# Altium footprint library XHCLB_22.11.30.PcbLib: 90 footprints (part 2 of 6)
Each footprint in its own frame and in the unit in brackets; x right, y up, seen from the top. Pads: shape width x height; smd on the part's side, far side on the other; paste and mask are expansions set on the pad; w line width, h text height; cw(c..) or ccw(c..) is an arc to the next point about the centre after c.
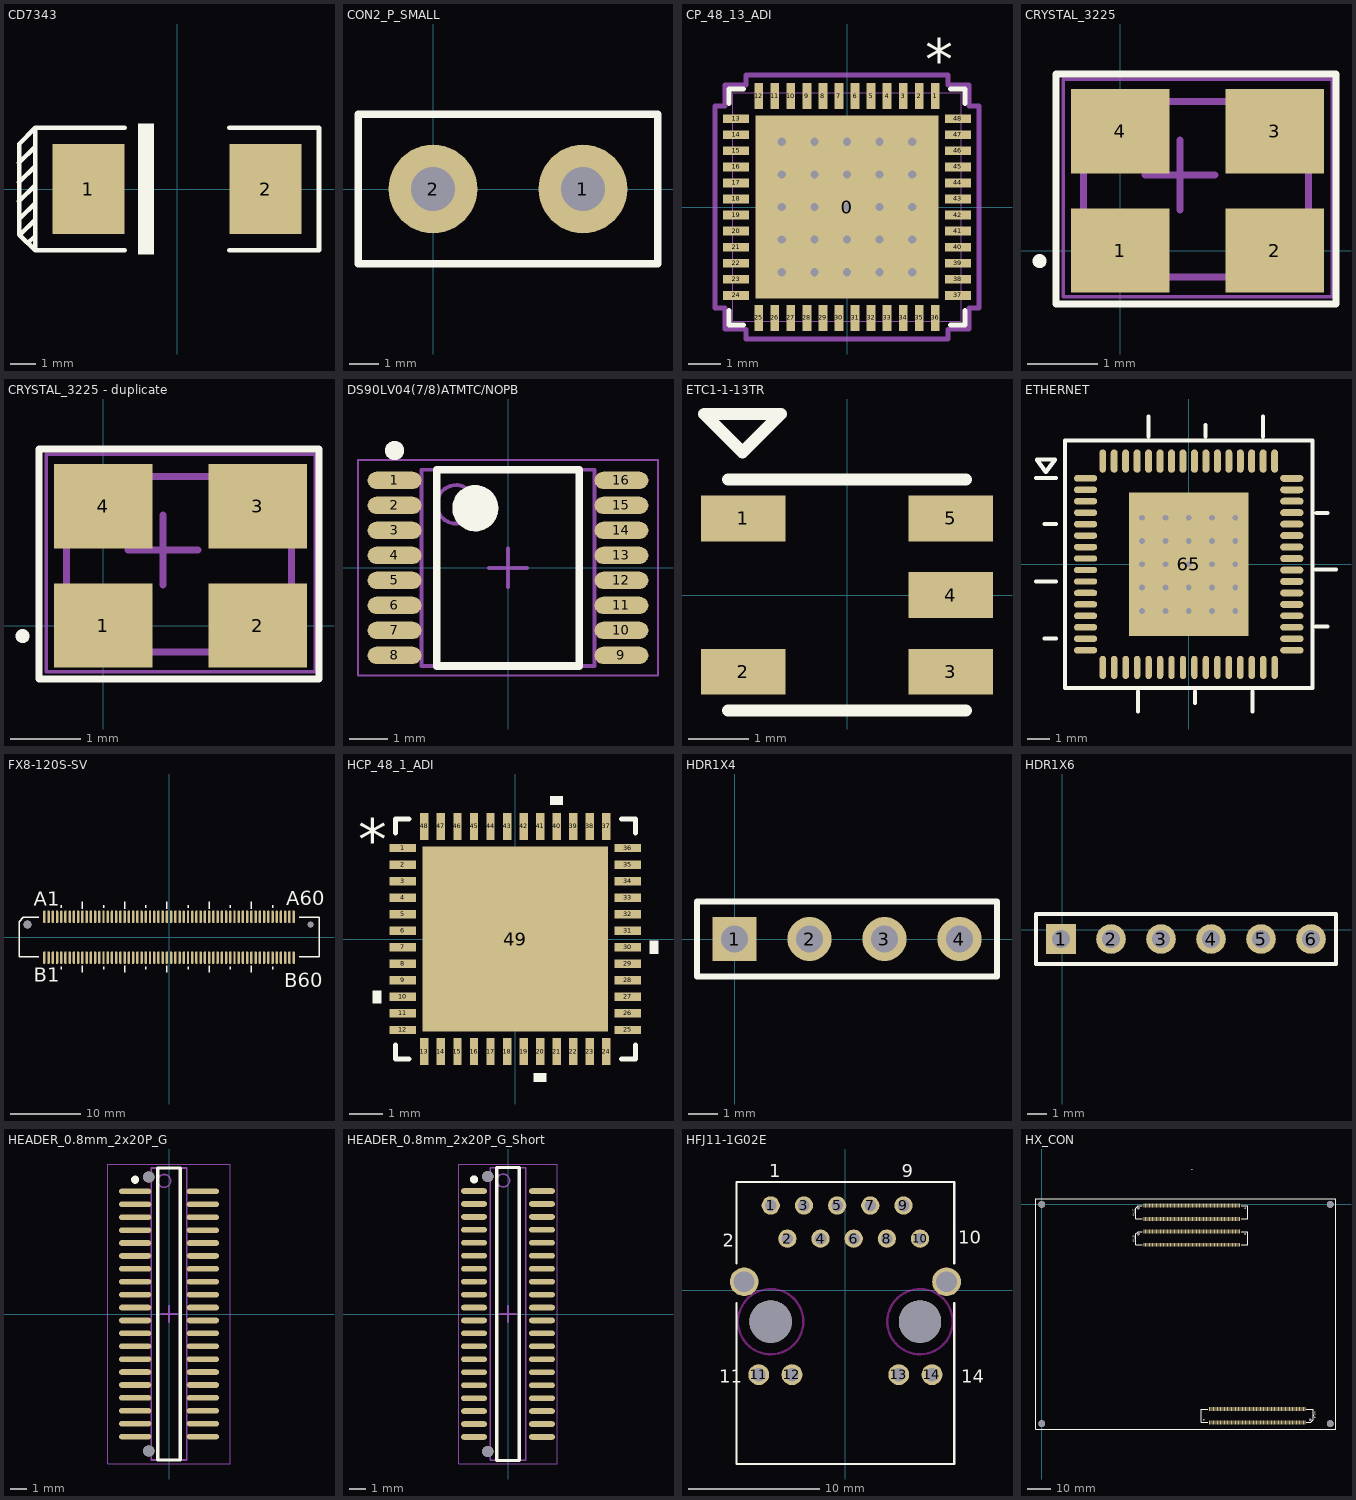
[diagram p1: the footprints below, top view; thin cyan lines are the x and y axes]

## CD7343 [mm]
pads (2):
  rect 2.8x3.5 smd: 1(-3.45,0) 2(3.45,0)
Top Overlay:
  rectangle: -1.524,-2.54 -0.889,2.54
  lines w0.178: -6.151,-0.474 -5.524,0.152 ; -6.151,0.263 -5.524,0.889 ; -6.151,1.025 -5.524,1.651 ; -6.092,-1.761 -5.524,-1.194 ; -6.092,-1.126 -5.524,-0.559 ; -5.817,-2.108 -5.524,-1.829 ; -2.032,-2.388 -5.524,-2.388 ; -2.032,2.388 -5.524,2.388 ; 2.032,-2.388 5.524,-2.388 5.524,2.388 2.032,2.388 ; -5.524,-2.388 -6.147,-1.778 -6.147,1.753 -5.524,2.388 ; -5.524,-2.388 -5.524,2.388

## CON2_P_SMALL [mm]
pads (2):
  round 3 hole 1.5: 1(5.08,0) 2(0,0)
Top Overlay:
  lines w0.254: -2.54,-2.54 -2.54,2.54 7.62,2.54 7.62,0 7.62,-2.54 -2.54,-2.54

## CP_48_13_ADI [mm]
pads (49):
  rect 5.7x5.7 smd paste+0 mask+0: 0(0,0)
  rect 0.275x0.805 smd paste+0 mask+0: 1(2.75,3.452) 2(2.25,3.452) 3(1.75,3.452) 4(1.25,3.452) 5(0.75,3.452) 6(0.25,3.452) 7(-0.25,3.452) 8(-0.75,3.452) 9(-1.25,3.452) 10(-1.75,3.452) 11(-2.25,3.452) 12(-2.75,3.452) 25(-2.75,-3.452) 26(-2.25,-3.452) 27(-1.75,-3.452) 28(-1.25,-3.452) 29(-0.75,-3.452) 30(-0.25,-3.452) 31(0.25,-3.452) 32(0.75,-3.452) 33(1.25,-3.452) 34(1.75,-3.452) 35(2.25,-3.452) 36(2.75,-3.452)
  rect 0.805x0.275 smd paste+0 mask+0: 13(-3.452,2.75) 14(-3.452,2.25) 15(-3.452,1.75) 16(-3.452,1.25) 17(-3.452,0.75) 18(-3.452,0.25) 19(-3.452,-0.25) 20(-3.452,-0.75) 21(-3.452,-1.25) 22(-3.452,-1.75) 23(-3.452,-2.25) 24(-3.452,-2.75) 37(3.452,-2.75) 38(3.452,-2.25) 39(3.452,-1.75) 40(3.452,-1.25) 41(3.452,-0.75) 42(3.452,-0.25) 43(3.452,0.25) 44(3.452,0.75) 45(3.452,1.25) 46(3.452,1.75) 47(3.452,2.25) 48(3.452,2.75)
via 0,0 diameter 0.457 hole 0.254
via 0,1.016 diameter 0.457 hole 0.254
via 0,-1.016 diameter 0.457 hole 0.254
via 0,-2.032 diameter 0.457 hole 0.254
via 0,2.032 diameter 0.457 hole 0.254
via -1.016,0 diameter 0.457 hole 0.254
via 1.016,0 diameter 0.457 hole 0.254
via 2.032,0 diameter 0.457 hole 0.254
via -2.032,0 diameter 0.457 hole 0.254
via 1.016,1.016 diameter 0.457 hole 0.254
via 1.016,-1.016 diameter 0.457 hole 0.254
via 1.016,-2.032 diameter 0.457 hole 0.254
via 1.016,2.032 diameter 0.457 hole 0.254
via 2.032,1.016 diameter 0.457 hole 0.254
via 2.032,-1.016 diameter 0.457 hole 0.254
via 2.032,-2.032 diameter 0.457 hole 0.254
via 2.032,2.032 diameter 0.457 hole 0.254
via -1.016,1.016 diameter 0.457 hole 0.254
via -1.016,-1.016 diameter 0.457 hole 0.254
via -1.016,-2.032 diameter 0.457 hole 0.254
via -1.016,2.032 diameter 0.457 hole 0.254
via -2.032,1.016 diameter 0.457 hole 0.254
via -2.032,-1.016 diameter 0.457 hole 0.254
via -2.032,-2.032 diameter 0.457 hole 0.254
via -2.032,2.032 diameter 0.457 hole 0.254
Top Overlay:
  lines w0.152: -3.677,-3.22 -3.677,-3.677 -3.22,-3.677 ; -3.677,3.22 -3.677,3.677 -3.22,3.677 ; 3.22,-3.677 3.677,-3.677 3.677,-3.22 ; 3.22,3.677 3.677,3.677 3.677,3.22
  text "*" at 2.432,3.96 h1.27
Top Paste:
  region: -1.525,-1.525 -2.75,-1.525 -2.75,-2.75 -1.525,-2.75
  region: -0.1,-1.525 -1.325,-1.525 -1.325,-2.75 -0.1,-2.75
  region: -0.1,-0.1 -1.325,-0.1 -1.325,-1.325 -0.1,-1.325
  region: -1.525,-0.1 -2.75,-0.1 -2.75,-1.325 -1.525,-1.325
  region: -0.1,1.325 -1.325,1.325 -1.325,0.1 -0.1,0.1
  region: -1.525,1.325 -2.75,1.325 -2.75,0.1 -1.525,0.1
  region: -0.1,2.75 -1.325,2.75 -1.325,1.525 -0.1,1.525
  region: -1.525,2.75 -2.75,2.75 -2.75,1.525 -1.525,1.525
  region: 2.75,-1.525 1.525,-1.525 1.525,-2.75 2.75,-2.75
  region: 1.325,-1.525 0.1,-1.525 0.1,-2.75 1.325,-2.75
  region: 1.325,-0.1 0.1,-0.1 0.1,-1.325 1.325,-1.325
  region: 2.75,-0.1 1.525,-0.1 1.525,-1.325 2.75,-1.325
  region: 1.325,1.325 0.1,1.325 0.1,0.1 1.325,0.1
  region: 1.325,2.75 0.1,2.75 0.1,1.525 1.325,1.525
  region: 2.75,1.325 1.525,1.325 1.525,0.1 2.75,0.1
  region: 2.75,2.75 1.525,2.75 1.525,1.525 2.75,1.525
Mechanical 13:
  lines w0.025: -3.55,-3.55 -3.55,3.55 3.55,3.55 3.55,-3.55 -3.55,-3.55 ; -3.55,-2.9 -3.55,-2.6 -3.55,-2.9 ; -3.55,-2.4 -3.55,-2.1 -3.55,-2.4 ; -3.55,-1.9 -3.55,-1.6 -3.55,-1.9 ; -3.55,-1.4 -3.55,-1.1 -3.55,-1.4 ; -3.55,-0.9 -3.55,-0.6 -3.55,-0.9 ; -3.55,-0.4 -3.55,-0.1 -3.55,-0.4 ; -3.55,0.1 -3.55,0.4 -3.55,0.1 ; -3.55,0.6 -3.55,0.9 -3.55,0.6 ; -3.55,1.1 -3.55,1.4 -3.55,1.1 ; -3.55,1.6 -3.55,1.9 -3.55,1.6 ; -3.55,2.1 -3.55,2.4 -3.55,2.1 ; -3.55,2.6 -3.55,2.9 -3.55,2.6 ; -2.9,-3.55 -2.6,-3.55 -2.9,-3.55 ; -2.9,3.55 -2.6,3.55 -2.9,3.55 ; -2.4,-3.55 -2.1,-3.55 -2.4,-3.55 ; -2.4,3.55 -2.1,3.55 -2.4,3.55 ; -1.9,-3.55 -1.6,-3.55 -1.9,-3.55 ; -1.9,3.55 -1.6,3.55 -1.9,3.55 ; -1.4,-3.55 -1.1,-3.55 -1.4,-3.55 ; -1.4,3.55 -1.1,3.55 -1.4,3.55 ; -0.9,-3.55 -0.6,-3.55 -0.9,-3.55 ; -0.9,3.55 -0.6,3.55 -0.9,3.55 ; -0.4,-3.55 -0.1,-3.55 -0.4,-3.55 ; -0.4,3.55 -0.1,3.55 -0.4,3.55 ; 0.1,-3.55 0.4,-3.55 0.1,-3.55 ; 0.1,3.55 0.4,3.55 0.1,3.55 ; 0.6,-3.55 0.9,-3.55 0.6,-3.55 ; 0.6,3.55 0.9,3.55 0.6,3.55 ; 1.1,-3.55 1.4,-3.55 1.1,-3.55 ; 1.1,3.55 1.4,3.55 1.1,3.55 ; 1.6,-3.55 1.9,-3.55 1.6,-3.55 ; 1.6,3.55 1.9,3.55 1.6,3.55 ; 2.1,-3.55 2.4,-3.55 2.1,-3.55 ; 2.1,3.55 2.4,3.55 2.1,3.55 ; 2.6,-3.55 2.9,-3.55 2.6,-3.55 ; 2.6,3.55 2.9,3.55 2.6,3.55 ; 3.55,-2.9 3.55,-2.6 3.55,-2.9 ; 3.55,-2.4 3.55,-2.1 3.55,-2.4 ; 3.55,-1.9 3.55,-1.6 3.55,-1.9 ; 3.55,-1.4 3.55,-1.1 3.55,-1.4 ; 3.55,-0.9 3.55,-0.6 3.55,-0.9 ; 3.55,-0.4 3.55,-0.1 3.55,-0.4 ; 3.55,0.1 3.55,0.4 3.55,0.1 ; 3.55,0.6 3.55,0.9 3.55,0.6 ; 3.55,1.1 3.55,1.4 3.55,1.1 ; 3.55,1.6 3.55,1.9 3.55,1.6 ; 3.55,2.1 3.55,2.4 3.55,2.1 ; 3.55,2.6 3.55,2.9 3.55,2.6
  text "*" at 2.591,2.983 h0.64
Mechanical 15:
  lines w0.152: -4.109,-3.141 -4.109,3.141 -3.804,3.141 -3.804,3.804 -3.141,3.804 -3.141,4.109 3.141,4.109 3.141,3.804 3.804,3.804 3.804,3.141 4.109,3.141 4.109,-3.141 3.804,-3.141 3.804,-3.804 3.141,-3.804 3.141,-4.109 -3.141,-4.109 -3.141,-3.804 -3.804,-3.804 -3.804,-3.141 -4.109,-3.141
3D body "CP_48_13_ADI.step": height 0.8, standoff 0, extent -3.55,-3.55 3.55,3.55

## CRYSTAL_3225 [mm]
pads (4):
  rect 1.4x1.2 smd: 1(0,0) 2(2.2,0) 3(2.2,1.7) 4(0,1.7)
Top Overlay:
  circle w0.1: c-1.15,-0.15 r0.05
  lines w0.1: -0.914,-0.762 3.073,-0.762 3.073,2.515 -0.914,2.515 -0.914,-0.762
Mechanical 13:
  lines w0.1: -0.521,-0.379 -0.521,2.121 2.679,2.121 2.679,-0.379 -0.521,-0.379
Mechanical 15:
  lines w0.05: -0.813,-0.66 -0.813,2.438 3.023,2.438 3.023,-0.66 -0.813,-0.66
  lines w0.1: 0.35,1.075 1.35,1.075 ; 0.85,0.575 0.85,1.575
3D body: height 0.7, standoff 0.1, extent -0.508,-0.412 2.692,2.088

## CRYSTAL_3225 - duplicate [mm]
pads (4):
  rect 1.4x1.2 smd: 1(0,0) 2(2.2,0) 3(2.2,1.7) 4(0,1.7)
Top Overlay:
  circle w0.1: c-1.15,-0.15 r0.05
  lines w0.1: -0.914,-0.762 -0.914,2.515 3.073,2.515 3.073,-0.762 -0.914,-0.762
Mechanical 13:
  lines w0.1: -0.521,-0.379 2.679,-0.379 2.679,2.121 -0.521,2.121 -0.521,-0.379
Mechanical 15:
  lines w0.05: -0.813,-0.66 3.023,-0.66 3.023,2.438 -0.813,2.438 -0.813,-0.66
  lines w0.1: 0.35,1.075 1.35,1.075 ; 0.85,0.575 0.85,1.575
3D body: height 0.7, standoff 0.1, extent -0.508,-0.412 2.692,2.088

## DS90LV04(7/8)ATMTC/NOPB [mm] "TSSOP (PW)"
height 1.2
pads (16):
  oval 1.4x0.45 smd: 1(-2.95,2.275) 2(-2.95,1.625) 3(-2.95,0.975) 4(-2.95,0.325) 5(-2.95,-0.325) 6(-2.95,-0.975) 7(-2.95,-1.625) 8(-2.95,-2.275) 9(2.95,-2.275) 10(2.95,-1.625) 11(2.95,-0.975) 12(2.95,-0.325) 13(2.95,0.325) 14(2.95,0.975) 15(2.95,1.625) 16(2.95,2.275)
Top Overlay:
  circle w0.25: c-2.95,3.05 r0.125
  circle w0.6: c-0.85,1.55 r0.3
  lines w0.2: -1.85,-2.55 -1.85,2.55 1.85,2.55 1.85,-2.55 -1.85,-2.55
Mechanical 13:
  circle w0.1: c-1.35,1.65 r0.5
  lines w0.1: -2.25,-2.55 -2.25,2.55 2.25,2.55 2.25,-2.55 -2.25,-2.55
Mechanical 15:
  lines w0.05: -3.9,-2.8 -3.9,2.8 3.9,2.8 3.9,-2.8 -3.9,-2.8
  lines w0.1: -0.5,0 0.5,0 ; 0,-0.5 0,0.5
3D body: height 1.2, standoff 0.05, extent -2.25,-2.55 2.25,2.55

## ETC1-1-13TR [mm]
pads (5):
  rect 1.4x0.76 smd: 1(-1.715,1.27) 2(-1.715,-1.27) 3(1.715,-1.27) 4(1.715,0) 5(1.715,1.27)
Top Overlay:
  lines w0.2: -1.97,-1.915 1.97,-1.915 ; -1.97,1.915 1.97,1.915 ; -2.365,3 -1.73,2.365 -1.095,3 -2.365,3

## ETHERNET [mm]
height 1.1
pads (65):
  oval 1.016x0.279 smd: 1(-4.5,3.75) 2(-4.5,3.25) 3(-4.5,2.75) 4(-4.5,2.25) 5(-4.5,1.75) 6(-4.5,1.25) 7(-4.5,0.75) 8(-4.5,0.25) 9(-4.5,-0.25) 10(-4.5,-0.75) 11(-4.5,-1.25) 12(-4.5,-1.75) 13(-4.5,-2.25) 14(-4.5,-2.75) 15(-4.5,-3.25) 16(-4.5,-3.75) 33(4.5,-3.75) 34(4.5,-3.25) 35(4.5,-2.75) 36(4.5,-2.25)
  oval 0.279x1.016 smd: 17(-3.75,-4.5) 18(-3.25,-4.5) 19(-2.75,-4.5) 20(-2.25,-4.5) 21(-1.75,-4.5) 22(-1.25,-4.5) 23(-0.75,-4.5) 24(-0.25,-4.5) 25(0.25,-4.5) 26(0.75,-4.5) 27(1.25,-4.5) 28(1.75,-4.5) 29(2.25,-4.5) 30(2.75,-4.5) 31(3.25,-4.5) 32(3.75,-4.5) 64(-3.75,4.5)
  oval 1.016x0.305 smd: 37(4.5,-1.75) 38(4.5,-1.25) 39(4.5,-0.75) 40(4.5,-0.25) 41(4.5,0.25) 42(4.5,0.75) 43(4.5,1.25) 44(4.5,1.75) 45(4.5,2.25) 46(4.5,2.75) 47(4.5,3.25) 48(4.5,3.75)
  oval 0.305x1.016 smd: 49(3.75,4.5) 50(3.25,4.5) 51(2.75,4.5) 52(2.25,4.5) 53(1.75,4.5) 54(1.25,4.5) 55(0.75,4.5) 56(0.25,4.5) 57(-0.25,4.5) 58(-0.75,4.5) 59(-1.25,4.5) 60(-1.75,4.5) 61(-2.25,4.5) 62(-2.75,4.5) 63(-3.25,4.5)
  rect 5.21x6.25 smd: 65(0,0)
via -2.032,-2.032 diameter 0.457 hole 0.254
via -2.032,-1.016 diameter 0.457 hole 0.254
via -2.032,2.032 diameter 0.457 hole 0.254
via -2.032,1.016 diameter 0.457 hole 0.254
via -1.016,-2.032 diameter 0.457 hole 0.254
via -1.016,-1.016 diameter 0.457 hole 0.254
via -1.016,2.032 diameter 0.457 hole 0.254
via -1.016,1.016 diameter 0.457 hole 0.254
via 2.032,-2.032 diameter 0.457 hole 0.254
via 2.032,-1.016 diameter 0.457 hole 0.254
via 2.032,2.032 diameter 0.457 hole 0.254
via 2.032,1.016 diameter 0.457 hole 0.254
via 1.016,-2.032 diameter 0.457 hole 0.254
via 1.016,-1.016 diameter 0.457 hole 0.254
via 1.016,2.032 diameter 0.457 hole 0.254
via 1.016,1.016 diameter 0.457 hole 0.254
via 2.032,0 diameter 0.457 hole 0.254
via 1.016,0 diameter 0.457 hole 0.254
via -2.032,0 diameter 0.457 hole 0.254
via -1.016,0 diameter 0.457 hole 0.254
via 0,-2.032 diameter 0.457 hole 0.254
via 0,-1.016 diameter 0.457 hole 0.254
via 0,2.032 diameter 0.457 hole 0.254
via 0,1.016 diameter 0.457 hole 0.254
via 0,0 diameter 0.457 hole 0.254
Top Overlay:
  lines w0.178: -6.662,-0.743 -5.798,-0.743 ; -6.662,3.757 -5.798,3.757 ; -6.292,-3.243 -5.798,-3.243 ; -6.292,1.757 -5.798,1.757 ; -2.217,-6.414 -2.217,-5.551 ; -1.76,5.575 -1.76,6.438 ; 0.283,-6.044 0.283,-5.551 ; 0.74,5.575 0.74,6.068 ; 2.783,-6.414 2.783,-5.551 ; 3.24,5.575 3.24,6.438 ; 5.563,-2.718 6.056,-2.718 ; 5.563,-0.229 6.426,-0.229 ; 5.566,2.243 6.06,2.243 ; -6.625,4.571 -6.233,4.025 -5.825,4.571 -6.625,4.571 ; -5.4,-5.4 5.4,-5.4 5.4,5.4 -5.4,5.4 -5.4,-5.4

## FX8-120S-SV [mm]
pads (122):
  oval 0.35x1.8 smd mask+0.102: A1(-17.7,2.9) A2(-17.1,2.9) A3(-16.5,2.9) A4(-15.9,2.9) A5(-15.3,2.9) A6(-14.7,2.9) A7(-14.1,2.9) A8(-13.5,2.9) A9(-12.9,2.9) A10(-12.3,2.9) A11(-11.7,2.9) A12(-11.1,2.9) A13(-10.5,2.9) A14(-9.9,2.9) A15(-9.3,2.9) A16(-8.7,2.9) A17(-8.1,2.9) A18(-7.5,2.9) A19(-6.9,2.9) A20(-6.3,2.9) A21(-5.7,2.9) A22(-5.1,2.9) A23(-4.5,2.9) A24(-3.9,2.9) A25(-3.3,2.9) A26(-2.7,2.9) A27(-2.1,2.9) A28(-1.5,2.9) A29(-0.9,2.9) A30(-0.3,2.9) A31(0.3,2.9) A32(0.9,2.9) A33(1.5,2.9) A34(2.1,2.9) A35(2.7,2.9) A36(3.3,2.9) A37(3.9,2.9) A38(4.5,2.9) A39(5.1,2.9) A40(5.7,2.9) A41(6.3,2.9) A42(6.9,2.9) A43(7.5,2.9) A44(8.1,2.9) A45(8.7,2.9) A46(9.3,2.9) A47(9.9,2.9) A48(10.5,2.9) A49(11.1,2.9) A50(11.7,2.9) A51(12.3,2.9) A52(12.9,2.9) A53(13.5,2.9) A54(14.1,2.9) A55(14.7,2.9) A56(15.3,2.9) A57(15.9,2.9) A58(16.5,2.9) A59(17.1,2.9) A60(17.7,2.9) B1(-17.7,-2.9) B2(-17.1,-2.9) B3(-16.5,-2.9) B4(-15.9,-2.9) B5(-15.3,-2.9) B6(-14.7,-2.9) B7(-14.1,-2.9) B8(-13.5,-2.9) B9(-12.9,-2.9) B10(-12.3,-2.9) B11(-11.7,-2.9) B12(-11.1,-2.9) B13(-10.5,-2.9) B14(-9.9,-2.9) B15(-9.3,-2.9) B16(-8.7,-2.9) B17(-8.1,-2.9) B18(-7.5,-2.9) B19(-6.9,-2.9) B20(-6.3,-2.9) B21(-5.7,-2.9) B22(-5.1,-2.9) B23(-4.5,-2.9) B24(-3.9,-2.9) B25(-3.3,-2.9) B26(-2.7,-2.9) B27(-2.1,-2.9) B28(-1.5,-2.9) B29(-0.9,-2.9) B30(-0.3,-2.9) B31(0.3,-2.9) B32(0.9,-2.9) B33(1.5,-2.9) B34(2.1,-2.9) B35(2.7,-2.9) B36(3.3,-2.9) B37(3.9,-2.9) B38(4.5,-2.9) B39(5.1,-2.9) B40(5.7,-2.9) B41(6.3,-2.9) B42(6.9,-2.9) B43(7.5,-2.9) B44(8.1,-2.9) B45(8.7,-2.9) B46(9.3,-2.9) B47(9.9,-2.9) B48(10.5,-2.9) B49(11.1,-2.9) B50(11.7,-2.9) B51(12.3,-2.9) B52(12.9,-2.9) B53(13.5,-2.9) B54(14.1,-2.9) B55(14.7,-2.9) B56(15.3,-2.9) B57(15.9,-2.9) B58(16.5,-2.9) B59(17.1,-2.9) B60(17.7,-2.9)
  round 1.1 hole 1.1 unplated mask+0.102: ""(-20.1,1.8)
  round 0.8 hole 0.8 unplated mask+0.102: ""(20.1,1.8)
Top Overlay:
  lines w0.178: -18.5,-2.8 -21.3,-2.8 -21.3,2.195 -20.695,2.8 -18.5,2.8 ; -15.291,-4.547 -15.291,-4.166 ; -15.291,4.166 -15.291,4.547 ; -12.319,-5.004 -12.319,-4.064 ; -12.319,4.064 -12.319,5.004 ; -9.291,-4.547 -9.291,-4.166 ; -9.291,4.166 -9.291,4.547 ; -6.319,-5.004 -6.319,-4.064 ; -6.319,4.064 -6.319,5.004 ; -3.291,-4.547 -3.291,-4.166 ; -3.291,4.166 -3.291,4.547 ; -0.319,-5.004 -0.319,-4.064 ; -0.319,4.064 -0.319,5.004 ; 2.709,-4.547 2.709,-4.166 ; 2.709,4.166 2.709,4.547 ; 5.681,-5.004 5.681,-4.064 ; 5.681,4.064 5.681,5.004 ; 8.709,-4.547 8.709,-4.166 ; 8.709,4.166 8.709,4.547 ; 11.681,-5.004 11.681,-4.064 ; 11.681,4.064 11.681,5.004 ; 14.709,-4.547 14.709,-4.166 ; 14.709,4.166 14.709,4.547 ; 18.5,-2.8 21.3,-2.8 21.3,2.8 18.5,2.8
  text "B60" at 16.383,-7.112 h2.03
  text "A60" at 16.637,4.572 h2.03
  text "B1" at -19.177,-6.35 h2.03
  text "A1" at -19.177,4.445 h2.03

## HCP_48_1_ADI [mm]
pads (49):
  rect 0.805x0.254 smd paste+0 mask+0: 1(-3.402,2.75) 2(-3.402,2.25) 3(-3.402,1.75) 4(-3.402,1.25) 5(-3.402,0.75) 6(-3.402,0.25) 7(-3.402,-0.25) 8(-3.402,-0.75) 9(-3.402,-1.25) 10(-3.402,-1.75) 11(-3.402,-2.25) 12(-3.402,-2.75) 25(3.402,-2.75) 26(3.402,-2.25) 27(3.402,-1.75) 28(3.402,-1.25) 29(3.402,-0.75) 30(3.402,-0.25) 31(3.402,0.25) 32(3.402,0.75) 33(3.402,1.25) 34(3.402,1.75) 35(3.402,2.25) 36(3.402,2.75)
  rect 0.254x0.805 smd paste+0 mask+0: 13(-2.75,-3.402) 14(-2.25,-3.402) 15(-1.75,-3.402) 16(-1.25,-3.402) 17(-0.75,-3.402) 18(-0.25,-3.402) 19(0.25,-3.402) 20(0.75,-3.402) 21(1.25,-3.402) 22(1.75,-3.402) 23(2.25,-3.402) 24(2.75,-3.402) 37(2.75,3.402) 38(2.25,3.402) 39(1.75,3.402) 40(1.25,3.402) 41(0.75,3.402) 42(0.25,3.402) 43(-0.25,3.402) 44(-0.75,3.402) 45(-1.25,3.402) 46(-1.75,3.402) 47(-2.25,3.402) 48(-2.75,3.402)
  rect 5.6x5.6 smd paste-2.787 mask+0: 49(0,0)
Top Overlay:
  region: -4.059,-1.559 -4.313,-1.559 -4.313,-1.94 -4.059,-1.94
  region: 0.941,-4.059 0.56,-4.059 0.56,-4.313 0.941,-4.313
  region: 4.059,-0.059 4.313,-0.059 4.313,-0.44 4.059,-0.44
  region: 1.441,4.059 1.06,4.059 1.06,4.313 1.441,4.313
  lines w0.152: -3.627,-3.21 -3.627,-3.627 -3.21,-3.627 ; -3.627,3.21 -3.627,3.627 -3.21,3.627 ; 3.21,-3.627 3.627,-3.627 3.627,-3.21 ; 3.21,3.627 3.627,3.627 3.627,3.21
  text "*" at -4.757,2.365 h1.27
Top Paste:
  region: -1.5,2.7 -2.7,2.7 -2.7,1.5 -1.5,1.5
  region: -1.5,1.3 -2.7,1.3 -2.7,0.1 -1.5,0.1
  region: -1.5,-0.1 -2.7,-0.1 -2.7,-1.3 -1.5,-1.3
  region: -1.5,-1.5 -2.7,-1.5 -2.7,-2.7 -1.5,-2.7
  region: -0.1,2.7 -1.3,2.7 -1.3,1.5 -0.1,1.5
  region: -0.1,1.3 -1.3,1.3 -1.3,0.1 -0.1,0.1
  region: -0.1,-0.1 -1.3,-0.1 -1.3,-1.3 -0.1,-1.3
  region: -0.1,-1.5 -1.3,-1.5 -1.3,-2.7 -0.1,-2.7
  region: 1.3,2.7 0.1,2.7 0.1,1.5 1.3,1.5
  region: 1.3,1.3 0.1,1.3 0.1,0.1 1.3,0.1
  region: 1.3,-0.1 0.1,-0.1 0.1,-1.3 1.3,-1.3
  region: 1.3,-1.5 0.1,-1.5 0.1,-2.7 1.3,-2.7
  region: 2.7,2.7 1.5,2.7 1.5,1.5 2.7,1.5
  region: 2.7,1.3 1.5,1.3 1.5,0.1 2.7,0.1
  region: 2.7,-0.1 1.5,-0.1 1.5,-1.3 2.7,-1.3
  region: 2.7,-1.5 1.5,-1.5 1.5,-2.7 2.7,-2.7

## HDR1X4 [mm] "Connector; Header; 6 Position"
pads (4):
  rect 1.5x1.5 hole 0.9: 1(0,0)
  round 1.5 hole 0.9: 2(2.54,0) 3(5.08,0) 4(7.62,0)
Top Overlay:
  lines w0.2: -1.27,-1.27 8.89,-1.27 8.89,1.27 -1.27,1.27 -1.27,-1.27

## HDR1X6 [mm]
pads (6):
  rect 1.5x1.5 hole 0.9: 1(-0.063,-0.466)
  round 1.5 hole 0.9: 2(2.477,-0.466) 3(5.017,-0.466) 4(7.557,-0.466) 5(10.097,-0.466) 6(12.637,-0.466)
Top Overlay:
  lines w0.2: -1.333,-1.736 -1.333,0.804 13.907,0.804 13.907,-1.736 -1.333,-1.736

## HEADER_0.8mm_2x20P_G [mm] "0.8间距2x20P公座，SMD"
height 2
pads (40):
  oval 2x0.35 smd: 1(-2.1,7.6) 2(-2.1,6.8) 3(-2.1,6) 4(-2.1,5.2) 5(-2.1,4.4) 6(-2.1,3.6) 7(-2.1,2.8) 8(-2.1,2) 9(-2.1,1.2) 10(-2.1,0.4) 11(-2.1,-0.4) 12(-2.1,-1.2) 13(-2.1,-2) 14(-2.1,-2.8) 15(-2.1,-3.6) 16(-2.1,-4.4) 17(-2.1,-5.2) 18(-2.1,-6) 19(-2.1,-6.8) 20(-2.1,-7.6) 21(2.1,-7.6) 22(2.1,-6.8) 23(2.1,-6) 24(2.1,-5.2) 25(2.1,-4.4) 26(2.1,-3.6) 27(2.1,-2.8) 28(2.1,-2) 29(2.1,-1.2) 30(2.1,-0.4) 31(2.1,0.4) 32(2.1,1.2) 33(2.1,2) 34(2.1,2.8) 35(2.1,3.6) 36(2.1,4.4) 37(2.1,5.2) 38(2.1,6) 39(2.1,6.8) 40(2.1,7.6)
via -1.25,8.5 diameter 0.7 hole 0.7
via -1.25,-8.5 diameter 0.7 hole 0.7
Top Overlay:
  circle w0.25: c-2.1,8.325 r0.125
  lines w0.2: -0.7,-9.05 -0.7,9.05 0.7,9.05 0.7,-9.05 -0.7,-9.05
Mechanical 13:
  circle w0.1: c-0.3,8.25 r0.4
  lines w0.1: -1.1,-9.05 -1.1,9.05 1.1,9.05 1.1,-9.05 -1.1,-9.05
Mechanical 15:
  lines w0.05: -3.8,-9.3 -3.8,9.3 3.8,9.3 3.8,-9.3 -3.8,-9.3
  lines w0.1: -0.5,0 0.5,0 ; 0,-0.5 0,0.5
3D body: height 2, standoff 0.1, extent -1.1,-9.05 1.1,9.05

## HEADER_0.8mm_2x20P_G_Short [mm] "0.8间距2x20P公座，SMD"
height 2
pads (40):
  oval 1.6x0.35 smd: 1(-2.1,7.6) 2(-2.1,6.8) 3(-2.1,6) 4(-2.1,5.2) 5(-2.1,4.4) 6(-2.1,3.6) 7(-2.1,2.8) 8(-2.1,2) 9(-2.1,1.2) 10(-2.1,0.4) 11(-2.1,-0.4) 12(-2.1,-1.2) 13(-2.1,-2) 14(-2.1,-2.8) 15(-2.1,-3.6) 16(-2.1,-4.4) 17(-2.1,-5.2) 18(-2.1,-6) 19(-2.1,-6.8) 20(-2.1,-7.6) 21(2.1,-7.6) 22(2.1,-6.8) 23(2.1,-6) 24(2.1,-5.2) 25(2.1,-4.4) 26(2.1,-3.6) 27(2.1,-2.8) 28(2.1,-2) 29(2.1,-1.2) 30(2.1,-0.4) 31(2.1,0.4) 32(2.1,1.2) 33(2.1,2) 34(2.1,2.8) 35(2.1,3.6) 36(2.1,4.4) 37(2.1,5.2) 38(2.1,6) 39(2.1,6.8) 40(2.1,7.6)
via -1.25,8.5 diameter 0.7 hole 0.7
via -1.25,-8.5 diameter 0.7 hole 0.7
Top Overlay:
  circle w0.25: c-2.1,8.325 r0.125
  lines w0.2: -0.7,-9.05 -0.7,9.05 0.7,9.05 0.7,-9.05 -0.7,-9.05
Mechanical 13:
  circle w0.1: c-0.3,8.25 r0.4
  lines w0.1: -1.1,-9.05 -1.1,9.05 1.1,9.05 1.1,-9.05 -1.1,-9.05
Mechanical 15:
  lines w0.05: -3.048,-9.271 -3.048,9.271 3.048,9.271 3.048,-9.271 -3.048,-9.271
  lines w0.1: -0.5,0 0.5,0 ; 0,-0.5 0,0.5
3D body: height 2, standoff 0.1, extent -1.1,-9.05 1.1,9.05

## HFJ11-1G02E [mm]
pads (18):
  round 1.4 hole 0.89: 1(-5.71,6.475) 2(-4.44,3.935) 3(-3.17,6.475) 4(-1.9,3.935) 5(-0.63,6.475) 6(0.64,3.935) 7(1.91,6.475) 8(3.18,3.935) 9(4.45,6.475) 10(5.72,3.935)
  round 1.6 hole 1.02: 11(-6.63,-6.475) 12(-4.09,-6.475) 13(4.09,-6.475) 14(6.63,-6.475)
  round 2.2 hole 1.6: ""(-7.745,0.635) ""(7.745,0.635)
  round 3.25 hole 3.25 unplated: ""(-5.715,-2.415) ""(5.715,-2.415)
Top Overlay:
  lines w0.178: -8.33,-1.016 -8.33,-13.315 8.33,-13.315 8.33,-1.016 ; -8.33,2.032 -8.33,8.275 8.33,8.275 8.33,2.032
  text "11" at -9.652,-7.112 h1.02
  text "14" at 8.89,-7.112 h1.02
  text "2" at -9.398,3.302 h1.02
  text "10" at 8.636,3.556 h1.02
  text "9" at 4.318,8.636 h1.02
  text "1" at -5.842,8.636 h1.02
Keep-Out Layer:
  circle w0.178: c5.715,-2.415 r2.5
  circle w0.178: c-5.715,-2.415 r2.5

## HX_CON [mm]
pads (430):
  round 3 hole 3 unplated: 0(0,-95) 0(0,0) 0(125,-95) 0(125,0)
  rect 0.35x1.7 smd mask+0.102: A1_1(44.306,-0.55) A1_2(44.906,-0.55) A1_3(45.506,-0.55) A1_4(46.106,-0.55) A1_5(46.706,-0.55) A1_6(47.306,-0.55) A1_7(47.906,-0.55) A1_8(48.506,-0.55) A1_9(49.106,-0.55) A1_10(49.706,-0.55) A1_11(50.306,-0.55) A1_12(50.906,-0.55) A1_13(51.506,-0.55) A1_14(52.106,-0.55) A1_15(52.706,-0.55) A1_16(53.306,-0.55) A1_17(53.906,-0.55) A1_18(54.506,-0.55) A1_19(55.106,-0.55) A1_20(55.706,-0.55) A1_21(56.306,-0.55) A1_22(56.906,-0.55) A1_23(57.506,-0.55) A1_24(58.106,-0.55) A1_25(58.706,-0.55) A1_26(59.306,-0.55) A1_27(59.906,-0.55) A1_28(60.506,-0.55) A1_29(61.106,-0.55) A1_30(61.706,-0.55) A1_31(62.306,-0.55) A1_32(62.906,-0.55) A1_33(63.506,-0.55) A1_34(64.106,-0.55) A1_35(64.706,-0.55) A1_36(65.306,-0.55) A1_37(65.906,-0.55) A1_38(66.506,-0.55) A1_39(67.106,-0.55) A1_40(67.706,-0.55) A1_41(68.306,-0.55) A1_42(68.906,-0.55) A1_43(69.506,-0.55) A1_44(70.106,-0.55) A1_45(70.706,-0.55) A1_46(71.306,-0.55) A1_47(71.906,-0.55) A1_48(72.506,-0.55) A1_49(73.106,-0.55) A1_50(73.706,-0.55) A1_51(74.306,-0.55) A1_52(74.906,-0.55) A1_53(75.506,-0.55) A1_54(76.106,-0.55) A1_55(76.706,-0.55) A1_56(77.306,-0.55) A1_57(77.906,-0.55) A1_58(78.506,-0.55) A1_59(79.106,-0.55) A1_60(79.706,-0.55) A1_61(80.306,-0.55) A1_62(80.906,-0.55) A1_63(81.506,-0.55) A1_64(82.106,-0.55) A1_65(82.706,-0.55) A1_66(83.306,-0.55) A1_67(83.906,-0.55) A1_68(84.506,-0.55) A1_69(85.106,-0.55) A1_70(85.706,-0.55) A2_1(44.306,-11.779) A2_2(44.906,-11.779) A2_3(45.506,-11.779) A2_4(46.106,-11.779) A2_5(46.706,-11.779) A2_6(47.306,-11.779) A2_7(47.906,-11.779) A2_8(48.506,-11.779) A2_9(49.106,-11.779) A2_10(49.706,-11.779) A2_11(50.306,-11.779) A2_12(50.906,-11.779) A2_13(51.506,-11.779) A2_14(52.106,-11.779) A2_15(52.706,-11.779) A2_16(53.306,-11.779) A2_17(53.906,-11.779) A2_18(54.506,-11.779) A2_19(55.106,-11.779) A2_20(55.706,-11.779) A2_21(56.306,-11.779) A2_22(56.906,-11.779) A2_23(57.506,-11.779) A2_24(58.106,-11.779) A2_25(58.706,-11.779) A2_26(59.306,-11.779) A2_27(59.906,-11.779) A2_28(60.506,-11.779) A2_29(61.106,-11.779) A2_30(61.706,-11.779) A2_31(62.306,-11.779) A2_32(62.906,-11.779) A2_33(63.506,-11.779) A2_34(64.106,-11.779) A2_35(64.706,-11.779) A2_36(65.306,-11.779) A2_37(65.906,-11.779) A2_38(66.506,-11.779) A2_39(67.106,-11.779) A2_40(67.706,-11.779) A2_41(68.306,-11.779) A2_42(68.906,-11.779) A2_43(69.506,-11.779) A2_44(70.106,-11.779) A2_45(70.706,-11.779) A2_46(71.306,-11.779) A2_47(71.906,-11.779) A2_48(72.506,-11.779) A2_49(73.106,-11.779) A2_50(73.706,-11.779) A2_51(74.306,-11.779) A2_52(74.906,-11.779) A2_53(75.506,-11.779) A2_54(76.106,-11.779) A2_55(76.706,-11.779) A2_56(77.306,-11.779) A2_57(77.906,-11.779) A2_58(78.506,-11.779) A2_59(79.106,-11.779) A2_60(79.706,-11.779) A2_61(80.306,-11.779) A2_62(80.906,-11.779) A2_63(81.506,-11.779) A2_64(82.106,-11.779) A2_65(82.706,-11.779) A2_66(83.306,-11.779) A2_67(83.906,-11.779) A2_68(84.506,-11.779) A2_69(85.106,-11.779) A2_70(85.706,-11.779) A3_1(114.01,-94.45) A3_2(113.41,-94.45) A3_3(112.81,-94.45) A3_4(112.21,-94.45) A3_5(111.61,-94.45) A3_6(111.01,-94.45) A3_7(110.41,-94.45) A3_8(109.81,-94.45) A3_9(109.21,-94.45) A3_10(108.61,-94.45) A3_11(108.01,-94.45) A3_12(107.41,-94.45) A3_13(106.81,-94.45) A3_14(106.21,-94.45) A3_15(105.61,-94.45) A3_16(105.01,-94.45) A3_17(104.41,-94.45) A3_18(103.81,-94.45) A3_19(103.21,-94.45) A3_20(102.61,-94.45) A3_21(102.01,-94.45) A3_22(101.41,-94.45) A3_23(100.81,-94.45) A3_24(100.21,-94.45) A3_25(99.61,-94.45) A3_26(99.01,-94.45) A3_27(98.41,-94.45) A3_28(97.81,-94.45) A3_29(97.21,-94.45) A3_30(96.61,-94.45) A3_31(96.01,-94.45) A3_32(95.41,-94.45) A3_33(94.81,-94.45) A3_34(94.21,-94.45) A3_35(93.61,-94.45) A3_36(93.01,-94.45) A3_37(92.41,-94.45) A3_38(91.81,-94.45) A3_39(91.21,-94.45) A3_40(90.61,-94.45) A3_41(90.01,-94.45) A3_42(89.41,-94.45) A3_43(88.81,-94.45) A3_44(88.21,-94.45) A3_45(87.61,-94.45) A3_46(87.01,-94.45) A3_47(86.41,-94.45) A3_48(85.81,-94.45) A3_49(85.21,-94.45) A3_50(84.61,-94.45) A3_51(84.01,-94.45) A3_52(83.41,-94.45) A3_53(82.81,-94.45) A3_54(82.21,-94.45) A3_55(81.61,-94.45) A3_56(81.01,-94.45) A3_57(80.41,-94.45) A3_58(79.81,-94.45) A3_59(79.21,-94.45) A3_60(78.61,-94.45) A3_61(78.01,-94.45) A3_62(77.41,-94.45) A3_63(76.81,-94.45) A3_64(76.21,-94.45) A3_65(75.61,-94.45) A3_66(75.01,-94.45) A3_67(74.41,-94.45) A3_68(73.81,-94.45) A3_69(73.21,-94.45) A3_70(72.61,-94.45) B1_1(44.306,-6.25) B1_2(44.906,-6.25) B1_3(45.506,-6.25) B1_4(46.106,-6.25) B1_5(46.706,-6.25) B1_6(47.306,-6.25) B1_7(47.906,-6.25) B1_8(48.506,-6.25) B1_9(49.106,-6.25) B1_10(49.706,-6.25) B1_11(50.306,-6.25) B1_12(50.906,-6.25) B1_13(51.506,-6.25) B1_14(52.106,-6.25) B1_15(52.706,-6.25) B1_16(53.306,-6.25) B1_17(53.906,-6.25) B1_18(54.506,-6.25) B1_19(55.106,-6.25) B1_20(55.706,-6.25) B1_21(56.306,-6.25) B1_22(56.906,-6.25) B1_23(57.506,-6.25) B1_24(58.106,-6.25) B1_25(58.706,-6.25) B1_26(59.306,-6.25) B1_27(59.906,-6.25) B1_28(60.506,-6.25) B1_29(61.106,-6.25) B1_30(61.706,-6.25) B1_31(62.306,-6.25) B1_32(62.906,-6.25) B1_33(63.506,-6.25) B1_34(64.106,-6.25) B1_35(64.706,-6.25) B1_36(65.306,-6.25) B1_37(65.906,-6.25) B1_38(66.506,-6.25) B1_39(67.106,-6.25) B1_40(67.706,-6.25) B1_41(68.306,-6.25) B1_42(68.906,-6.25) B1_43(69.506,-6.25) B1_44(70.106,-6.25) B1_45(70.706,-6.25) B1_46(71.306,-6.25) B1_47(71.906,-6.25) B1_48(72.506,-6.25) B1_49(73.106,-6.25) B1_50(73.706,-6.25) B1_51(74.306,-6.25) B1_52(74.906,-6.25) B1_53(75.506,-6.25) B1_54(76.106,-6.25) B1_55(76.706,-6.25) B1_56(77.306,-6.25) B1_57(77.906,-6.25) B1_58(78.506,-6.25) B1_59(79.106,-6.25) B1_60(79.706,-6.25) B1_61(80.306,-6.25) B1_62(80.906,-6.25) B1_63(81.506,-6.25) B1_64(82.106,-6.25) B1_65(82.706,-6.25) B1_66(83.306,-6.25) B1_67(83.906,-6.25) B1_68(84.506,-6.25) B1_69(85.106,-6.25) B1_70(85.706,-6.25) B2_1(44.306,-17.479) B2_2(44.906,-17.479) B2_3(45.506,-17.479) B2_4(46.106,-17.479) B2_5(46.706,-17.479) B2_6(47.306,-17.479) B2_7(47.906,-17.479) B2_8(48.506,-17.479) B2_9(49.106,-17.479) B2_10(49.706,-17.479) B2_11(50.306,-17.479) B2_12(50.906,-17.479) B2_13(51.506,-17.479) B2_14(52.106,-17.479) B2_15(52.706,-17.479) B2_16(53.306,-17.479) B2_17(53.906,-17.479) B2_18(54.506,-17.479) B2_19(55.106,-17.479) B2_20(55.706,-17.479) B2_21(56.306,-17.479) B2_22(56.906,-17.479) B2_23(57.506,-17.479) B2_24(58.106,-17.479) B2_25(58.706,-17.479) B2_26(59.306,-17.479) B2_27(59.906,-17.479) B2_28(60.506,-17.479) B2_29(61.106,-17.479) B2_30(61.706,-17.479) B2_31(62.306,-17.479) B2_32(62.906,-17.479) B2_33(63.506,-17.479) B2_34(64.106,-17.479) B2_35(64.706,-17.479) B2_36(65.306,-17.479) B2_37(65.906,-17.479) B2_38(66.506,-17.479) B2_39(67.106,-17.479) B2_40(67.706,-17.479) B2_41(68.306,-17.479) B2_42(68.906,-17.479) B2_43(69.506,-17.479) B2_44(70.106,-17.479) B2_45(70.706,-17.479) B2_46(71.306,-17.479) B2_47(71.906,-17.479) B2_48(72.506,-17.479) B2_49(73.106,-17.479) B2_50(73.706,-17.479) B2_51(74.306,-17.479) B2_52(74.906,-17.479) B2_53(75.506,-17.479) B2_54(76.106,-17.479) B2_55(76.706,-17.479) B2_56(77.306,-17.479) B2_57(77.906,-17.479) B2_58(78.506,-17.479) B2_59(79.106,-17.479) B2_60(79.706,-17.479) B2_61(80.306,-17.479) B2_62(80.906,-17.479) B2_63(81.506,-17.479) B2_64(82.106,-17.479) B2_65(82.706,-17.479) B2_66(83.306,-17.479) B2_67(83.906,-17.479) B2_68(84.506,-17.479) B2_69(85.106,-17.479) B2_70(85.706,-17.479) B3_1(114.01,-88.75) B3_2(113.41,-88.75) B3_3(112.81,-88.75) B3_4(112.21,-88.75) B3_5(111.61,-88.75) B3_6(111.01,-88.75) B3_7(110.41,-88.75) B3_8(109.81,-88.75) B3_9(109.21,-88.75) B3_10(108.61,-88.75) B3_11(108.01,-88.75) B3_12(107.41,-88.75) B3_13(106.81,-88.75) B3_14(106.21,-88.75) B3_15(105.61,-88.75) B3_16(105.01,-88.75) B3_17(104.41,-88.75) B3_18(103.81,-88.75) B3_19(103.21,-88.75) B3_20(102.61,-88.75) B3_21(102.01,-88.75) B3_22(101.41,-88.75) B3_23(100.81,-88.75) B3_24(100.21,-88.75) B3_25(99.61,-88.75) B3_26(99.01,-88.75) B3_27(98.41,-88.75) B3_28(97.81,-88.75) B3_29(97.21,-88.75) B3_30(96.61,-88.75) B3_31(96.01,-88.75) B3_32(95.41,-88.75) B3_33(94.81,-88.75) B3_34(94.21,-88.75) B3_35(93.61,-88.75) B3_36(93.01,-88.75) B3_37(92.41,-88.75) B3_38(91.81,-88.75) B3_39(91.21,-88.75) B3_40(90.61,-88.75) B3_41(90.01,-88.75) B3_42(89.41,-88.75) B3_43(88.81,-88.75) B3_44(88.21,-88.75) B3_45(87.61,-88.75) B3_46(87.01,-88.75) B3_47(86.41,-88.75) B3_48(85.81,-88.75) B3_49(85.21,-88.75) B3_50(84.61,-88.75) B3_51(84.01,-88.75) B3_52(83.41,-88.75) B3_53(82.81,-88.75) B3_54(82.21,-88.75) B3_55(81.61,-88.75) B3_56(81.01,-88.75) B3_57(80.41,-88.75) B3_58(79.81,-88.75) B3_59(79.21,-88.75) B3_60(78.61,-88.75) B3_61(78.01,-88.75) B3_62(77.41,-88.75) B3_63(76.81,-88.75) B3_64(76.21,-88.75) B3_65(75.61,-88.75) B3_66(75.01,-88.75) B3_67(74.41,-88.75) B3_68(73.81,-88.75) B3_69(73.21,-88.75) B3_70(72.61,-88.75)
  round 1.1 hole 1.1 unplated: ""(41.906,-12.829) ""(41.906,-1.6) ""(116.41,-93.4)
  round 0.7 hole 0.7 unplated: ""(70.21,-93.4) ""(88.106,-12.829) ""(88.106,-1.6)
via 65.006,15.12 diameter 0.457 hole 0.254
Top Overlay:
  lines w0.178: 43.606,-17.429 40.706,-17.429 40.706,-12.829 41.706,-11.829 43.606,-11.829 ; 43.606,-6.2 40.706,-6.2 40.706,-1.6 41.706,-0.6 43.606,-0.6 ; 71.91,-94.4 69.01,-94.4 69.01,-88.8 71.91,-88.8 ; 86.406,-17.429 89.306,-17.429 89.306,-11.829 86.406,-11.829 ; 86.406,-6.2 89.306,-6.2 89.306,-0.6 86.406,-0.6 ; 114.71,-94.4 116.61,-94.4 117.61,-93.4 117.61,-88.8 114.71,-88.8 ; -2.5,-97.5 -2.5,2.5 127.5,2.5 127.5,-97.5 -2.5,-97.5
  text "HX_C" at 40.425,-5.19 h0.76
  text "HX_B" at 40.425,-16.419 h0.76
  text "HX_A" at 117.928,-89.804 h0.76